# Altium footprint library C0603(1608)x0.8.PcbLib: 1 footprints
Each footprint in its own frame and in the unit in brackets; x right, y up, seen from the top. Pads: shape width x height; smd on the part's side, far side on the other; paste and mask are expansions set on the pad; w line width, h text height; cw(c..) or ccw(c..) is an arc to the next point about the centre after c.
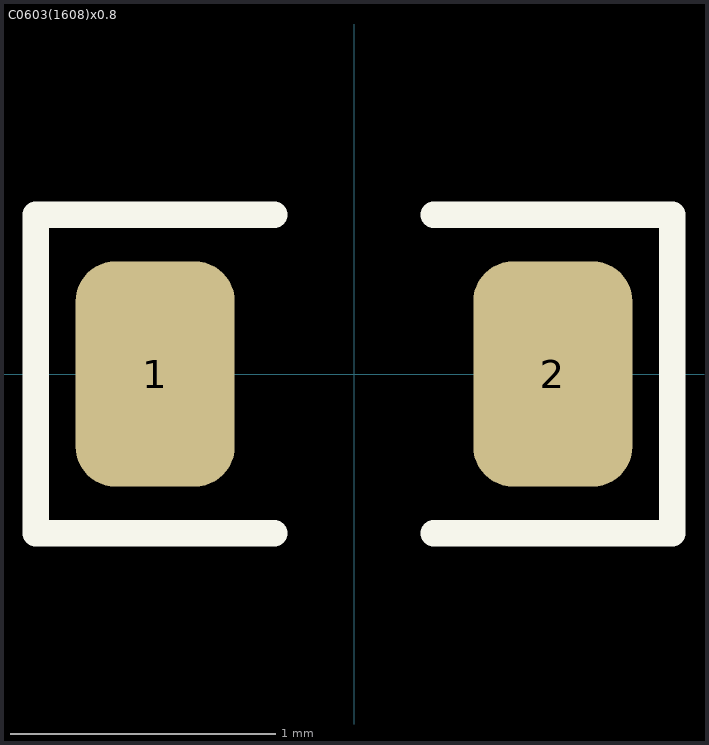
[diagram p0: the footprint, top view; thin cyan lines are the x and y axes]

## C0603(1608)x0.8 [mm]
height 0.8
pads (2):
  rrect50% 0.6x0.85 smd: 1(-0.75,0) 2(0.75,0)
Top Overlay:
  lines w0.1: -0.3,-0.6 -1.2,-0.6 -1.2,0.6 -0.3,0.6 ; 0.3,-0.6 1.2,-0.6 1.2,0.6 0.3,0.6
3D body "Cap 0603(1608)x80N.STEP": height 0.81, standoff 0, extent -0.8,-0.4 0.8,0.4